# Altium schematic symbol library ControllerBoardCMPV2.SchLib: 1 symbol
Pins are listed as number, name and electrical type; pins without a type are passive.

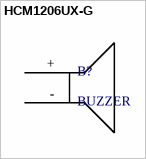
[diagram p0: symbol HCM1206UX-G]

## HCM1206UX-G
designator B?, comment BUZZER
2.3KHz Internally Driven Buzzer
footprint HCM1206UX-G
pins: +, -